# EAGLE library part PLL1700* (library texas)
MULTI-CLOCK GENERATOR GENERATED AUDIO SYSTEM CLOCK Phase Lock Loop (PLL).
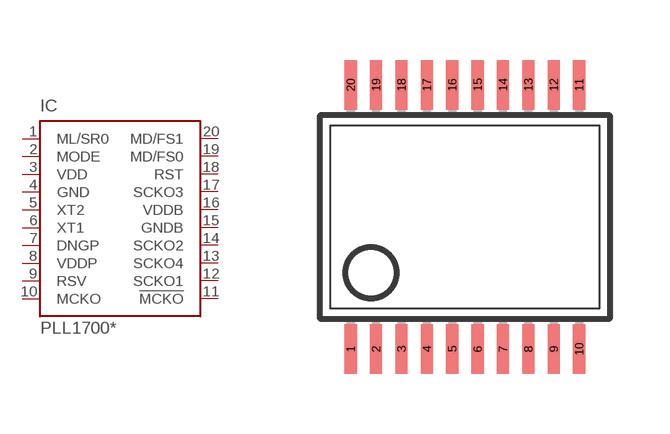
[diagram p23: symbol with the pads of SSOP20; footprint SSOP20]

Designator prefix IC

## PLL1700E  [SSOP20]
1  ML/SR0  in
2  MODE  in
3  VDD  in
4  GND  pwr
5  XT2  in
6  XT1  in
7  DNGP  pwr
8  VDDP  pwr
9  RSV  pas
10  MCKO  out
11  !MCKO  out
12  SCKO1  out
13  SCKO4  out
14  SCKO2  out
15  GNDB  pwr
16  VDDB  pwr
17  SCKO3  out
18  RST  in
19  MD/FS0  in
20  MD/FS1  in

## Footprint SSOP20 (pad centres in mm)
Small Shrink Outline Package
smd 0.305 x 1.245: 1 -2.857,-3.302; 2 -2.222,-3.302; 3 -1.587,-3.302; 4 -0.952,-3.302; 5 -0.317,-3.302; 6 0.318,-3.302; 7 0.953,-3.302; 8 1.588,-3.302; 9 2.223,-3.302; 10 2.858,-3.302; 11 2.858,3.302; 12 2.223,3.302; 13 1.588,3.302; 14 0.953,3.302; 15 0.318,3.302; 16 -0.317,3.302; 17 -0.952,3.302; 18 -1.587,3.302; 19 -2.222,3.302; 20 -2.857,3.302